# Altium schematic symbol library MMA8652FCR1.SchLib: 1 symbol
Pins are listed as number, name and electrical type; pins without a type are passive.

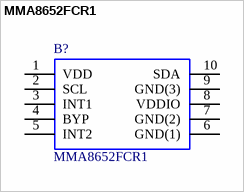
[diagram p0: symbol MMA8652FCR1]

## MMA8652FCR1
designator B?
MMA8652FCR1, Accelerometer, 3-Axis, 0  400 kHz Serial-I2C 1.95  3.6 V, 10-Pin DFN; Manufacturer_Name: Nexperia; Geometry.Height: 1mm; Supplier_Name: RS; RS Part Number: 8016889P; Manufacturer_Part_Number: MMA8652FCR1; Allied_Number: *; Other Part Number: *; Datasheet Link: http://docs-europe.electrocomponents.com/webdocs/12de/0900766b812de9b9.pdf; 3D Package: *
footprint SON40P200X200X100-10N
pins: 1 VDD (power), 2 SCL, 3 INT1, 4 BYP, 5 INT2, 6 GND(1), 7 GND(2), 8 VDDIO (power), 9 GND(3), 10 SDA